# Altium schematic symbol library Connector-KF-2510.SchLib: 4 symbols
Pins are listed as number, name and electrical type; pins without a type are passive.

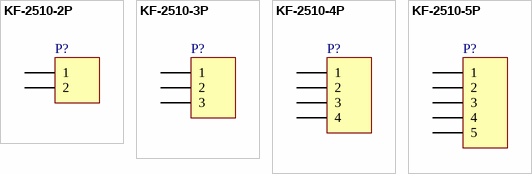
[diagram p0: symbols KF-2510-2P to KF-2510-5P]

## KF-2510-2P
designator P?
Header, 2510,2-Pin; LatestRevisionDate: 17-Jul-2002; LatestRevisionNote: Re-released for DXP Platform.; Publisher: Altium Limited
footprint KF2510-2.54_2P_AW
pins: 1, 2

## KF-2510-3P
designator P?
Header, 2510,3-Pin; LatestRevisionDate: 17-Jul-2002; LatestRevisionNote: Re-released for DXP Platform.; Publisher: Altium Limited
footprint KF2510-2.54_3P_AW
pins: 1, 2, 3

## KF-2510-4P
designator P?
Header, 2510,4-Pin; LatestRevisionDate: 17-Jul-2002; LatestRevisionNote: Re-released for DXP Platform.; Publisher: Altium Limited
footprint KF2510-2.54_4P_AW
pins: 1, 2, 3, 4

## KF-2510-5P
designator P?
Header, 2510,5-Pin; LatestRevisionDate: 17-Jul-2002; LatestRevisionNote: Re-released for DXP Platform.; Publisher: Altium Limited
footprint KF2510-2.54_5P_AW
pins: 1, 2, 3, 4, 5